# EAGLE library part ESP32-CAM (library WiFlyParts)
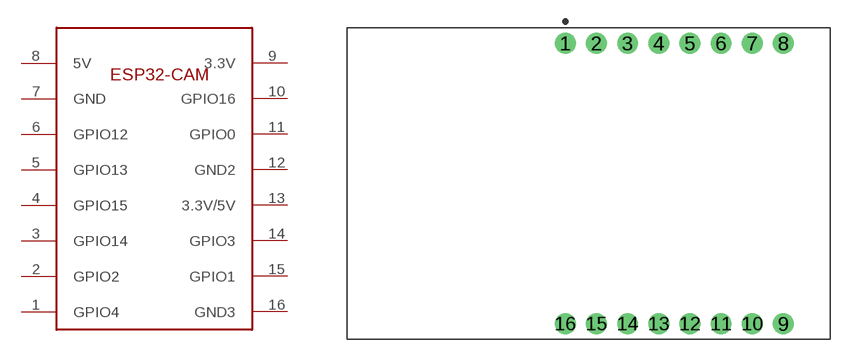
[diagram p1: symbol with the pads of HDRVR16W64P2286X254_2X8_2032X2540X254B; footprint HDRVR16W64P2286X254_2X8_2032X2540X254B]

Designator prefix -

## ESP32-CAMESP32-CAM  [HDRVR16W64P2286X254_2X8_2032X2540X254B]
1  GPIO4
2  GPIO2
3  GPIO14
4  GPIO15
5  GPIO13
6  GPIO12
7  GND
8  5V
9  3.3V
10  GPIO16
11  GPIO0
12  GND2
13  3.3V/5V
14  GPIO3
15  GPIO1
16  GND3

## Footprint HDRVR16W64P2286X254_2X8_2032X2540X254B (pad centres in mm)
Double-row, 16-pin Receptacle Header (Female) Straight, 22.86 mm (0.90 in) row pitch, 2.54 mm (0.10 in) col pitch, 2.54 mm insulator length, 20.32 X 25.40 X 2.54 mm body Double-row (2X8), 16-pin Receptacle Header (Female) Straight package with 22.86 mm (0.90 in) row pitch, 2.54 mm (0.10 in) col pitch, 0.64 mm lead width, 3.00 mm tail length and 2.54 mm insulator length with overall size 20.32 X 25.40 X 2.54 mm, pin pattern - clockwise from top left
drill 1.105 pad 1.705: 1 0,0; 2 2.54,0; 3 5.08,0; 4 7.62,0; 5 10.16,0; 6 12.7,0; 7 15.24,0; 8 17.78,0; 9 17.78,-22.86; 10 15.24,-22.86; 11 12.7,-22.86; 12 10.16,-22.86; 13 7.62,-22.86; 14 5.08,-22.86; 15 2.54,-22.86; 16 0,-22.86